# EAGLE library part DAC904 (library kamiki)
14-bit, 165MSPS Digital-to-Analog Converter
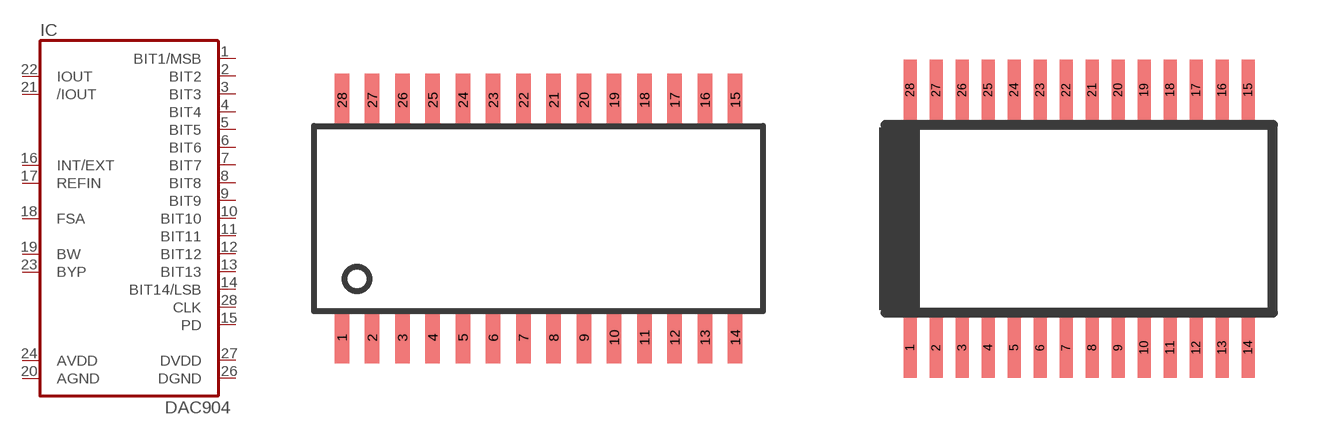
[diagram p15: symbol with the pads of SOP28; footprints SOP28, TSSOP28]

Designator prefix IC

## DAC904U  [SOP28]
1  BIT1/MSB  in
2  BIT2  in
3  BIT3  in
4  BIT4  in
5  BIT5  in
6  BIT6  in
7  BIT7  in
8  BIT8  in
9  BIT9  in
10  BIT10  in
11  BIT11  in
12  BIT12  in
13  BIT13  in
14  BIT14/LSB  in
15  PD  in
16  INT/EXT  pas
17  REFIN  pas
18  FSA  pas
19  BW  pas
20  AGND  pwr
21  /IOUT  out
22  IOUT  out
23  BYP  pas
24  AVDD  pwr
26  DGND  pwr
27  DVDD  pwr
28  CLK  in

## DAC904E  [TSSOP28]
Pads as for SOP28

## Footprint SOP28 (pad centres in mm)
SMALL OUTLINE PACKAGE
smd 0.6 x 2.2: 1 -8.255,-4.992; 2 -6.985,-4.992; 3 -5.715,-4.992; 4 -4.445,-4.992; 5 -3.175,-4.992; 6 -1.905,-4.992; 7 -0.635,-4.992; 8 0.635,-4.992; 9 1.905,-4.992; 10 3.175,-4.992; 11 4.445,-4.992; 12 5.715,-4.992; 13 6.985,-4.992; 14 8.255,-4.992; 15 8.255,4.992; 16 6.985,4.992; 17 5.715,4.992; 18 4.445,4.992; 19 3.175,4.992; 20 1.905,4.992; 21 0.635,4.992; 22 -0.635,4.992; 23 -1.905,4.992; 24 -3.175,4.992; 25 -4.445,4.992; 26 -5.715,4.992; 27 -6.985,4.992; 28 -8.255,4.992

## Footprint TSSOP28 (pad centres in mm)
Shrink Small Outline Package package type SS
smd 0.32 x 1.5: 1 -4.225,-3.225; 2 -3.575,-3.225; 3 -2.925,-3.225; 4 -2.275,-3.225; 5 -1.625,-3.225; 6 -0.975,-3.225; 7 -0.325,-3.225; 8 0.325,-3.225; 9 0.975,-3.225; 10 1.625,-3.225; 11 2.275,-3.225; 12 2.925,-3.225; 13 3.575,-3.225; 14 4.225,-3.225; 15 4.225,3.225; 16 3.575,3.225; 17 2.925,3.225; 18 2.275,3.225; 19 1.625,3.225; 20 0.975,3.225; 21 0.325,3.225; 22 -0.325,3.225; 23 -0.975,3.225; 24 -1.625,3.225; 25 -2.275,3.225; 26 -2.925,3.225; 27 -3.575,3.225; 28 -4.225,3.225